# Altium schematic symbol library Schlib1.SchLib: 5 symbols
Pins are listed as number, name and electrical type; pins without a type are passive.

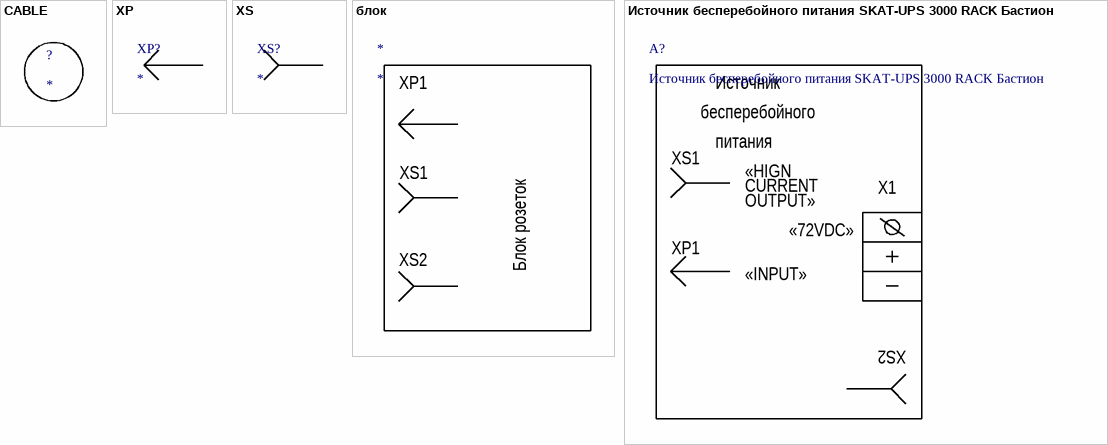
[diagram p0: symbols CABLE to Источник бесперебойного питания SKAT-UPS 3000 RACK Бастион]

## CABLE
designator ?

## XP
designator XP?

## XS
designator XS?

## блок
designator *
text: XP1; XS1; XS2; Блок розеток

## Источник бесперебойного питания SKAT-UPS 3000 RACK Бастион
designator A?
text: Источник; бесперебойного; питания; XS1; «HIGN; CURRENT; X1; OUTPUT»; «72VDC»; XP1; «INPUT»; XS2